# Altium footprint library Connector Footprints.PcbLib: 65 footprints (part 3 of 5)
Each footprint in its own frame and in the unit in brackets; x right, y up, seen from the top. Pads: shape width x height; smd on the part's side, far side on the other; paste and mask are expansions set on the pad; w line width, h text height; cw(c..) or ccw(c..) is an arc to the next point about the centre after c.
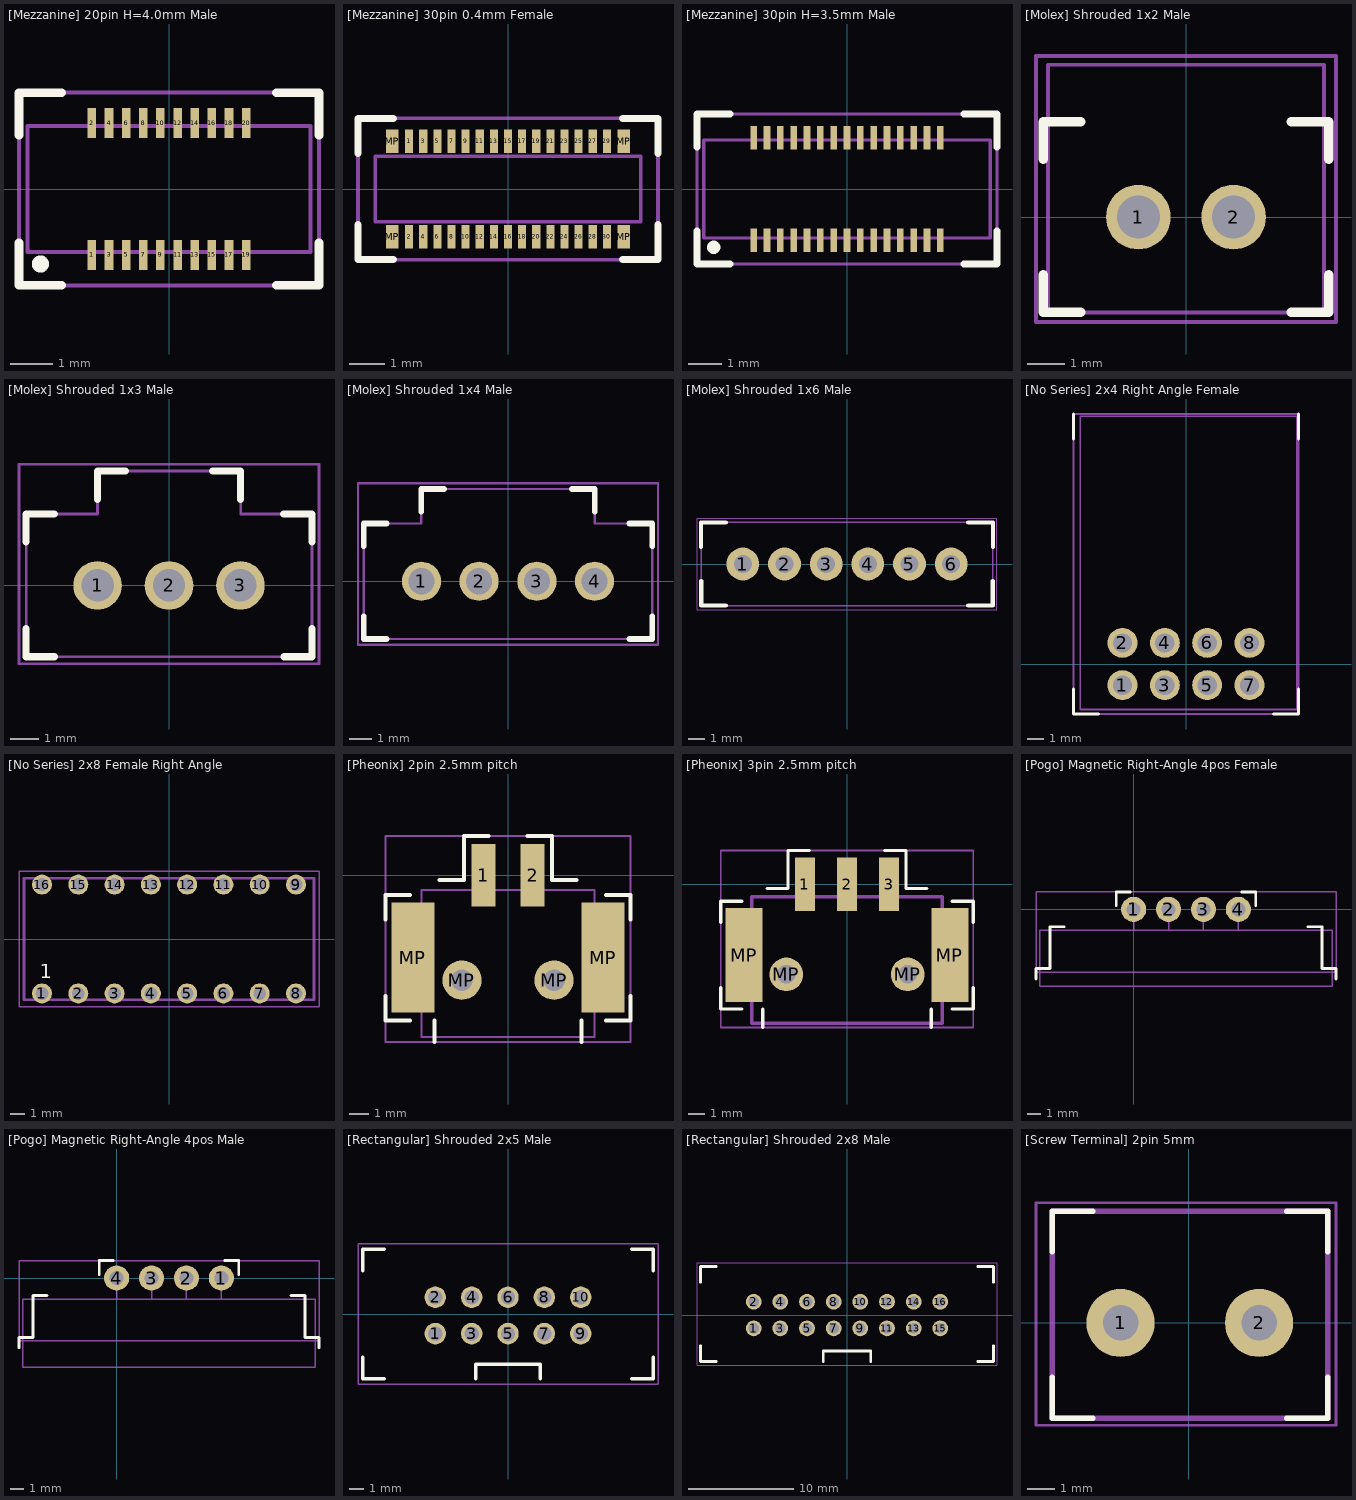
[diagram p2: the footprints below, top view; thin cyan lines are the x and y axes]

## [Mezzanine] 20pin H=4.0mm Male [mm] "DF40TC(4.0)-20DS-0.4V(58)"
pads (20):
  rect 0.2x0.7 smd paste-0.016 mask+0.05: 1(-1.8,-1.54) 2(-1.8,1.54) 3(-1.4,-1.54) 4(-1.4,1.54) 5(-1,-1.54) 6(-1,1.54) 7(-0.6,-1.54) 8(-0.6,1.54) 9(-0.2,-1.54) 10(-0.2,1.54) 11(0.2,-1.54) 12(0.2,1.54) 13(0.6,-1.54) 14(0.6,1.54) 15(1,-1.54) 16(1,1.54) 17(1.4,-1.54) 18(1.4,1.54) 19(1.8,-1.54) 20(1.8,1.54)
Top Overlay:
  circle w0.2: c-3,-1.75 r0.1
  lines w0.2: -3.5,-1.25 -3.5,-2.25 -2.5,-2.25 ; -3.5,1.25 -3.5,2.25 -2.5,2.25 ; 2.5,-2.25 3.5,-2.25 3.5,-1.25 ; 2.5,2.25 3.5,2.25 3.5,1.25
Physical Drawing:
  lines w0.1: -3.3,-1.47 3.3,-1.47 3.3,1.47 -3.3,1.47 -3.3,-1.47
Part Outline:
  lines w0.1: -3.5,-2.25 -3.5,2.25 3.5,2.25 3.5,-2.25 -3.5,-2.25
3D body "[Mezzanine] 20pin H=4,0mm Male.STEP": height 3.9, standoff 0, extent -3.3,-1.705 3.3,1.675

## [Mezzanine] 30pin 0.4mm Female [mm]
pads (34):
  rect 0.23x0.66 smd paste-0.018 mask+0.05: 1(-2.8,1.355) 2(-2.8,-1.355) 3(-2.4,1.355) 4(-2.4,-1.355) 5(-2,1.355) 6(-2,-1.355) 7(-1.6,1.355) 8(-1.6,-1.355) 9(-1.2,1.355) 10(-1.2,-1.355) 11(-0.8,1.355) 12(-0.8,-1.355) 13(-0.4,1.355) 14(-0.4,-1.355) 15(0,1.355) 16(0,-1.355) 17(0.4,1.355) 18(0.4,-1.355) 19(0.8,1.355) 20(0.8,-1.355) 21(1.2,1.355) 22(1.2,-1.355) 23(1.6,1.355) 24(1.6,-1.355) 25(2,1.355) 26(2,-1.355) 27(2.4,1.355) 28(2.4,-1.355) 29(2.8,1.355) 30(2.8,-1.355)
  rect 0.35x0.66 smd paste-0.024 mask+0.05: MP(-3.275,-1.355) MP(-3.275,1.355) MP(3.275,-1.355) MP(3.275,1.355)
Top Overlay:
  lines w0.2: -4.25,-1 -4.25,-2 -3.25,-2 ; -4.25,1 -4.25,2 -3.25,2 ; 3.25,-2 4.25,-2 4.25,-1 ; 3.25,2 4.25,2 4.25,1
Physical Drawing:
  lines w0.1: -3.76,-0.925 3.76,-0.925 3.76,0.925 -3.76,0.925 -3.76,-0.925
Part Outline:
  lines w0.1: -4.25,-2 4.25,-2 4.25,2 -4.25,2 -4.25,-2
3D body "step_temp.STEP": height 1.14, standoff 0, extent -3.76,-1.485 3.76,1.485

## [Mezzanine] 30pin H=3.5mm Male [mm] "DF40C-30DP-0.4V(51)"
pads (30):
  rect 0.2x0.7 smd: 1(-2.8,-1.54) 2(-2.8,1.54) 3(-2.4,-1.54) 4(-2.4,1.54) 5(-2,-1.54) 6(-2,1.54) 7(-1.6,-1.54) 8(-1.6,1.54) 9(-1.2,-1.54) 10(-1.2,1.54) 11(-0.8,-1.54) 12(-0.8,1.54) 13(-0.4,-1.54) 14(-0.4,1.54) 15(0,-1.54) 16(0,1.54) 17(0.4,-1.54) 18(0.4,1.54) 19(0.8,-1.54) 20(0.8,1.54) 21(1.2,-1.54) 22(1.2,1.54) 23(1.6,-1.54) 24(1.6,1.54) 25(2,-1.54) 26(2,1.54) 27(2.4,-1.54) 28(2.4,1.54) 29(2.8,-1.54) 30(2.8,1.54)
Top Overlay:
  circle w0.2: c-4,-1.75 r0.1
  lines w0.2: -4.5,-1.25 -4.5,-2.25 -3.5,-2.25 ; -4.5,1.25 -4.5,2.25 -3.5,2.25 ; 3.5,-2.25 4.5,-2.25 4.5,-1.25 ; 3.5,2.25 4.5,2.25 4.5,1.25
Physical Drawing:
  lines w0.1: -4.3,-1.47 4.3,-1.47 4.3,1.47 -4.3,1.47 -4.3,-1.47
Part Outline:
  lines w0.1: -4.5,-2.25 -4.5,2.25 4.5,2.25 4.5,-2.25 -4.5,-2.25
3D body "[Mezzanine] 30pin H=3,5mm Male.STEP": height 3.4, standoff 0, extent -4.3,-1.675 4.3,1.705

## [Molex] Shrouded 1x2 Male [mm]
pads (2):
  round 1.725 hole 1.15: 1(-1.27,0) 2(1.27,0)
Top Overlay:
  lines w0.254: -3.81,-1.54 -3.81,-2.54 -2.81,-2.54 ; -3.81,1.54 -3.81,2.54 -2.81,2.54 ; 2.81,-2.54 3.81,-2.54 3.81,-1.54 ; 2.81,2.54 3.81,2.54 3.81,1.54
Physical Drawing:
  lines w0.1: -3.683,-2.542 -3.683,4.062 3.683,4.062 3.683,-2.542 -3.683,-2.542
Part Outline:
  lines w0.1: -4,-2.8 4,-2.8 4,4.3 -4,4.3 -4,-2.8
3D body "70543-0036.stp": height 11.71, standoff -3.4, extent -3.683,-2.542 3.683,4.062

## [Molex] Shrouded 1x3 Male [mm] "070543-0037 / Mates with 005057-9403"
pads (3):
  round 1.725 hole 1.15: 1(-2.54,0) 2(0,0) 3(2.54,0)
Top Overlay:
  lines w0.254: -5.08,-1.54 -5.08,-2.54 -4.08,-2.54 ; -5.08,1.54 -5.08,2.54 -4.08,2.54 ; -2.545,3.064 -2.545,4.064 -1.545,4.064 ; 1.545,4.064 2.545,4.064 2.545,3.064 ; 4.08,2.54 5.08,2.54 5.08,1.54 ; 4.085,-2.54 5.085,-2.54 5.085,-1.54
Physical Drawing:
  lines w0.1: 2.545,4.064 2.55,4.059 ; 2.545,4.064 2.55,4.059 ; 2.545,4.064 -2.545,4.064 -2.545,2.54 -5.08,2.54 -5.08,-2.54 5.085,-2.54 5.085,2.54 2.55,2.54 2.55,4.059
Part Outline:
  lines w0.1: -5.335,-2.79 -5.335,4.31 5.335,4.31 5.335,-2.79 -5.335,-2.79
3D body "70543-0037.stp": height 11.67, standoff -3.44, extent -5.08,-2.542 5.08,4.062

## [Molex] Shrouded 1x4 Male [mm] "70543-0003 / Mates with 0050579404"
pads (4):
  round 1.725 hole 1.15: 1(-3.81,0) 2(-1.27,0) 3(1.27,0) 4(3.81,0)
Top Overlay:
  lines w0.254: -6.35,-1.54 -6.35,-2.54 -5.35,-2.54 ; -6.35,1.54 -6.35,2.54 -5.35,2.54 ; -3.815,3.064 -3.815,4.064 -2.815,4.064 ; 2.815,4.064 3.815,4.064 3.815,3.064 ; 5.35,2.54 6.35,2.54 6.35,1.54 ; 5.355,-2.54 6.355,-2.54 6.355,-1.54
Physical Drawing:
  lines w0.1: -6.355,-2.54 6.355,-2.54 ; -6.35,-2.54 -6.35,2.54 -3.815,2.54 -3.815,4.064 3.815,4.064 3.815,2.54 6.35,2.54 6.35,-2.54
Part Outline:
  lines w0.1: -6.605,-2.79 6.605,-2.79 6.605,4.31 -6.605,4.31 -6.605,-2.79
3D body "70543-0003.stp": height 11.64, standoff -3.47, extent -6.35,-2.54 6.35,4.064

## [Molex] Shrouded 1x6 Male [mm]
pads (6):
  round 2 hole 1.1: 1(-6.35,0) 2(-3.81,0) 3(-1.27,0) 4(1.27,0) 5(3.81,0) 6(6.35,0)
Top Overlay:
  lines w0.254: -8.895,1.04 -8.895,2.54 -7.395,2.54 ; -8.89,-1.04 -8.89,-2.54 -7.39,-2.54 ; 7.39,-2.54 8.89,-2.54 8.89,-1.04 ; 7.395,2.54 8.895,2.54 8.895,1.04
Physical Drawing:
  lines w0.1: -8.895,-2.54 8.895,-2.54 8.895,2.54 -8.895,2.54 -8.895,-2.54
Part Outline:
  lines w0.05: -9.145,-2.79 9.145,-2.79 9.145,2.79 -9.145,2.79 -9.145,-2.79
3D body "70543-0005.stp": height 11.49, standoff -3.62, extent -8.89,-2.54 8.89,4.064

## [No Series] 2x4 Right Angle Female [mm] "280389-2"
pads (8):
  round 1.8 hole 1.15: 1(-3.81,-1.27) 2(-3.81,1.27) 3(-1.27,-1.27) 4(-1.27,1.27) 5(1.27,-1.27) 6(1.27,1.27) 7(3.81,-1.27) 8(3.81,1.27)
Top Overlay:
  lines w0.2: -6.75,-1.5 -6.75,-3 -5.25,-3 ; -6.75,13.5 -6.75,15 ; 5.25,-3 6.75,-3 6.75,-1.5 ; 6.75,13.5 6.75,15
Physical Drawing:
  lines w0.1: -6.35,-2.73 6.65,-2.73 6.65,14.87 -6.35,14.87 -6.35,-2.73
Part Outline:
  lines w0.1: -6.75,-3 -6.75,15 6.75,15 6.75,-3 -6.75,-3
3D body "280389-2.stp": height 6.95, standoff -3.55, extent -6.265,-2.63 6.185,14.77

## [No Series] 2x8 Female Right Angle [mm] "90152-2116"
pads (16):
  round 1.4 hole 0.9: 1(-8.89,-3.81) 2(-6.35,-3.81) 3(-3.81,-3.81) 4(-1.27,-3.81) 5(1.27,-3.81) 6(3.81,-3.81) 7(6.35,-3.81) 8(8.89,-3.81) 9(8.89,3.81) 10(6.35,3.81) 11(3.81,3.81) 12(1.27,3.81) 13(-1.27,3.81) 14(-3.81,3.81) 15(-6.35,3.81) 16(-8.89,3.81)
Top Overlay:
  text "1" at -9.057,-2.75 h1
Physical Drawing:
  lines w0.2: -10.16,-4.25 -10.16,4.25 10.16,4.25 10.16,-4.25 -10.16,-4.25
Part Outline:
  lines w0.1: -10.5,-4.75 -10.5,4.75 10.5,4.75 10.5,-4.75 -10.5,-4.75
3D body "90152-2116.stp": height 5.94, standoff -2.95, extent -10.16,-4.25 10.16,4.25

## [Pheonix] 2pin 2.5mm pitch [mm] "1778764"
pads (6):
  rect 1.2x3.2 smd: 1(-1.25,0) 2(1.25,0)
  rect 2.2x5.6 smd: MP(-4.85,-4.2) MP(4.85,-4.2)
  round 2 hole 1.1: MP(-2.35,-5.35) MP(2.35,-5.35)
Top Overlay:
  lines w0.2: -6.25,-6.15 -6.25,-7.4 -5,-7.4 ; -6.25,-2.25 -6.25,-1 -5,-1 ; -3.75,-8.5 -3.75,-7.4 ; -3.5,-0.25 -2.25,-0.25 -2.25,2 -1,2 ; 1,2 2.25,2 2.25,-0.25 3.5,-0.25 ; 3.75,-8.5 3.75,-7.4 ; 5,-7.4 6.25,-7.4 6.25,-6.15 ; 5,-1 6.25,-1 6.25,-2.25
Physical Drawing:
  lines w0.1: -4.4,-8.25 -4.4,-0.75 4.4,-0.75 4.4,-8.25 -4.4,-8.25
Part Outline:
  lines w0.1: -6.25,-8.5 -6.25,2 6.25,2 6.25,-8.5 -6.25,-8.5
3D body "1778764.stp": height 5, standoff -0.7, extent -5.3,-8.175 5.3,1.325

## [Pheonix] 3pin 2.5mm pitch [mm] "1778777"
pads (7):
  rect 1.2x3.2 smd: 1(-2.5,0) 2(0,0) 3(2.5,0)
  rect 2.2x5.6 smd: MP(-6.1,-4.2) MP(6.1,-4.2)
  round 2 hole 1.1: MP(-3.6,-5.35) MP(3.6,-5.35)
Top Overlay:
  lines w0.2: -7.5,-6.15 -7.5,-7.4 -6.25,-7.4 ; -7.5,-2.25 -7.5,-1 -6.25,-1 ; -5,-8.5 -5,-7.4 ; -4.75,-0.25 -3.5,-0.25 -3.5,2 -2.25,2 ; 2.25,2 3.5,2 3.5,-0.25 4.75,-0.25 ; 5,-8.5 5,-7.4 ; 6.25,-7.4 7.5,-7.4 7.5,-6.15 ; 6.25,-1 7.5,-1 7.5,-2.25
Physical Drawing:
  lines w0.2: -5.65,-8.25 5.65,-8.25 5.65,-0.75 -5.65,-0.75 -5.65,-8.25
Part Outline:
  lines w0.1: -7.5,-8.5 7.5,-8.5 7.5,2 -7.5,2 -7.5,-8.5
3D body "1778777.stp": height 5, standoff -0.7, extent -6.55,-8.175 6.55,1.325

## [Pogo] Magnetic Right-Angle 4pos Female [mm] "5358"
pads (4):
  round 1.8 hole 1: 1(0,0) 2(2.5,0) 3(5,0) 4(7.5,0)
Top Overlay:
  lines w0.2: -7,-4.988 -7,-4.25 -6,-4.25 -6,-1.25 -5,-1.25 ; -1.25,0.25 -1.25,1.25 -0.25,1.25 ; 7.75,1.25 8.75,1.25 8.75,0.25 ; 12.5,-1.25 13.5,-1.25 13.5,-4.25 14.5,-4.25 14.5,-4.988
Physical Drawing:
  lines w0.1: -6.746,-5.504 -6.746,-1.504 14.238,-1.504 14.238,-5.504 -6.738,-5.504 ; -6.738,-4.504 14.246,-4.504 ; 0,-1.5 0,0 ; 2.5,-1.5 2.5,0 ; 5,-1.5 5,0 ; 7.5,-1.5 7.5,0
Part Outline:
  lines w0.1: -7,-4.5 14.5,-4.5 14.5,1.25 -7,1.25 -7,-4.5
3D body "[Pogo] Magnetic Right-Angle 4pos Female.STEP": height 6, standoff -1.25, extent -6.738,-5.504 14.238,0.299

## [Pogo] Magnetic Right-Angle 4pos Male [mm] "5358"
pads (4):
  round 1.8 hole 1: 1(7.5,0) 2(5,0) 3(2.5,0) 4(0,0)
Top Overlay:
  lines w0.2: -7,-4.988 -7,-4.25 -6,-4.25 -6,-1.25 -5,-1.25 ; -1.25,0.25 -1.25,1.25 -0.25,1.25 ; 7.75,1.25 8.75,1.25 8.75,0.25 ; 12.5,-1.25 13.5,-1.25 13.5,-4.25 14.5,-4.25 14.5,-4.988
Physical Drawing:
  lines w0.1: -6.738,-4.504 14.246,-4.504 ; 0,-1.5 0,0 ; 2.5,-1.5 2.5,0 ; 5,-1.5 5,0 ; 7.5,-1.5 7.5,0 ; -6.746,-6.4 -6.746,-1.504 14.238,-1.504 14.238,-6.4 -6.746,-6.4
Part Outline:
  lines w0.1: -7,-4.5 -7,1.25 14.5,1.25 14.5,-4.5 -7,-4.5
3D body "[Pogo] Magnetic Right-Angle 4pos Male.STEP": height 6, standoff -1.25, extent -6.738,-6.4 14.238,0.299

## [Rectangular] Shrouded 2x5 Male [mm]
pads (10):
  round 1.5 hole 1: 1(-5.08,-1.37) 2(-5.08,1.17) 3(-2.54,-1.37) 4(-2.54,1.17) 5(0,-1.37) 6(0,1.17) 7(2.54,-1.37) 8(2.54,1.17) 9(5.08,-1.37) 10(5.08,1.17)
Top Overlay:
  lines w0.254: -10.15,-3.02 -10.15,-4.52 -8.65,-4.52 ; -10.15,3.02 -10.15,4.52 -8.65,4.52 ; -2.25,-4.52 -2.25,-3.52 2.25,-3.52 2.25,-4.52 ; 8.65,-4.52 10.15,-4.52 10.15,-3.02 ; 8.65,4.52 10.15,4.52 10.15,3.02
Part Outline:
  lines w0.1: -10.48,-4.9 10.48,-4.9 10.48,4.9 -10.48,4.9 -10.48,-4.9
3D body "[Header] Shrouded 2x5 Male.stp": height 8.8, standoff -3.6, extent -10.15,-4.52 10.15,4.52

## [Rectangular] Shrouded 2x8 Male [mm]
pads (16):
  round 1.5 hole 1: 1(-8.89,-1.27) 2(-8.89,1.27) 3(-6.35,-1.27) 4(-6.35,1.27) 5(-3.81,-1.27) 6(-3.81,1.27) 7(-1.27,-1.27) 8(-1.27,1.27) 9(1.27,-1.27) 10(1.27,1.27) 11(3.81,-1.27) 12(3.81,1.27) 13(6.35,-1.27) 14(6.35,1.27) 15(8.89,-1.27) 16(8.89,1.27)
Top Overlay:
  lines w0.254: -13.96,-2.92 -13.96,-4.42 -12.46,-4.42 ; -13.96,3.12 -13.96,4.62 -12.46,4.62 ; -2.25,-4.42 -2.25,-3.42 2.25,-3.42 2.25,-4.42 ; 12.46,-4.42 13.96,-4.42 13.96,-2.92 ; 12.46,4.62 13.96,4.62 13.96,3.12
Part Outline:
  lines w0.1: -14.29,-4.8 -14.29,5 14.29,5 14.29,-4.8 -14.29,-4.8
3D body "70246-1604.stp": height 9.05, standoff -3.64, extent -13.97,-4.445 13.97,4.445

## [Screw Terminal] 2pin 5mm [mm]
pads (2):
  round 2.5 hole 1.3: 1(-2.5,0) 2(2.58,0)
Top Overlay:
  lines w0.2: -5.01,-2 -5.01,-3.5 -3.51,-3.5 ; -5.01,2.6 -5.01,4.1 -3.51,4.1 ; 3.59,-3.5 5.09,-3.5 5.09,-2 ; 3.59,4.1 5.09,4.1 5.09,2.6
Physical Drawing:
  lines w0.2: -5.01,-3.5 5.09,-3.5 5.09,4.1 -5.01,4.1 -5.01,-3.5
Part Outline:
  lines w0.1: -5.6,-3.75 5.4,-3.75 5.4,4.4 -5.6,4.4 -5.6,-3.75
3D body "TB002-500-02BE.stp": height 9.99, standoff -4.36, extent -5.45,-3.5 5.05,4.1